# EAGLE library part MB91F662PMC-GE1 (library Fujitsu_By_element14_Batch_1)
32-bit Microcontrollers
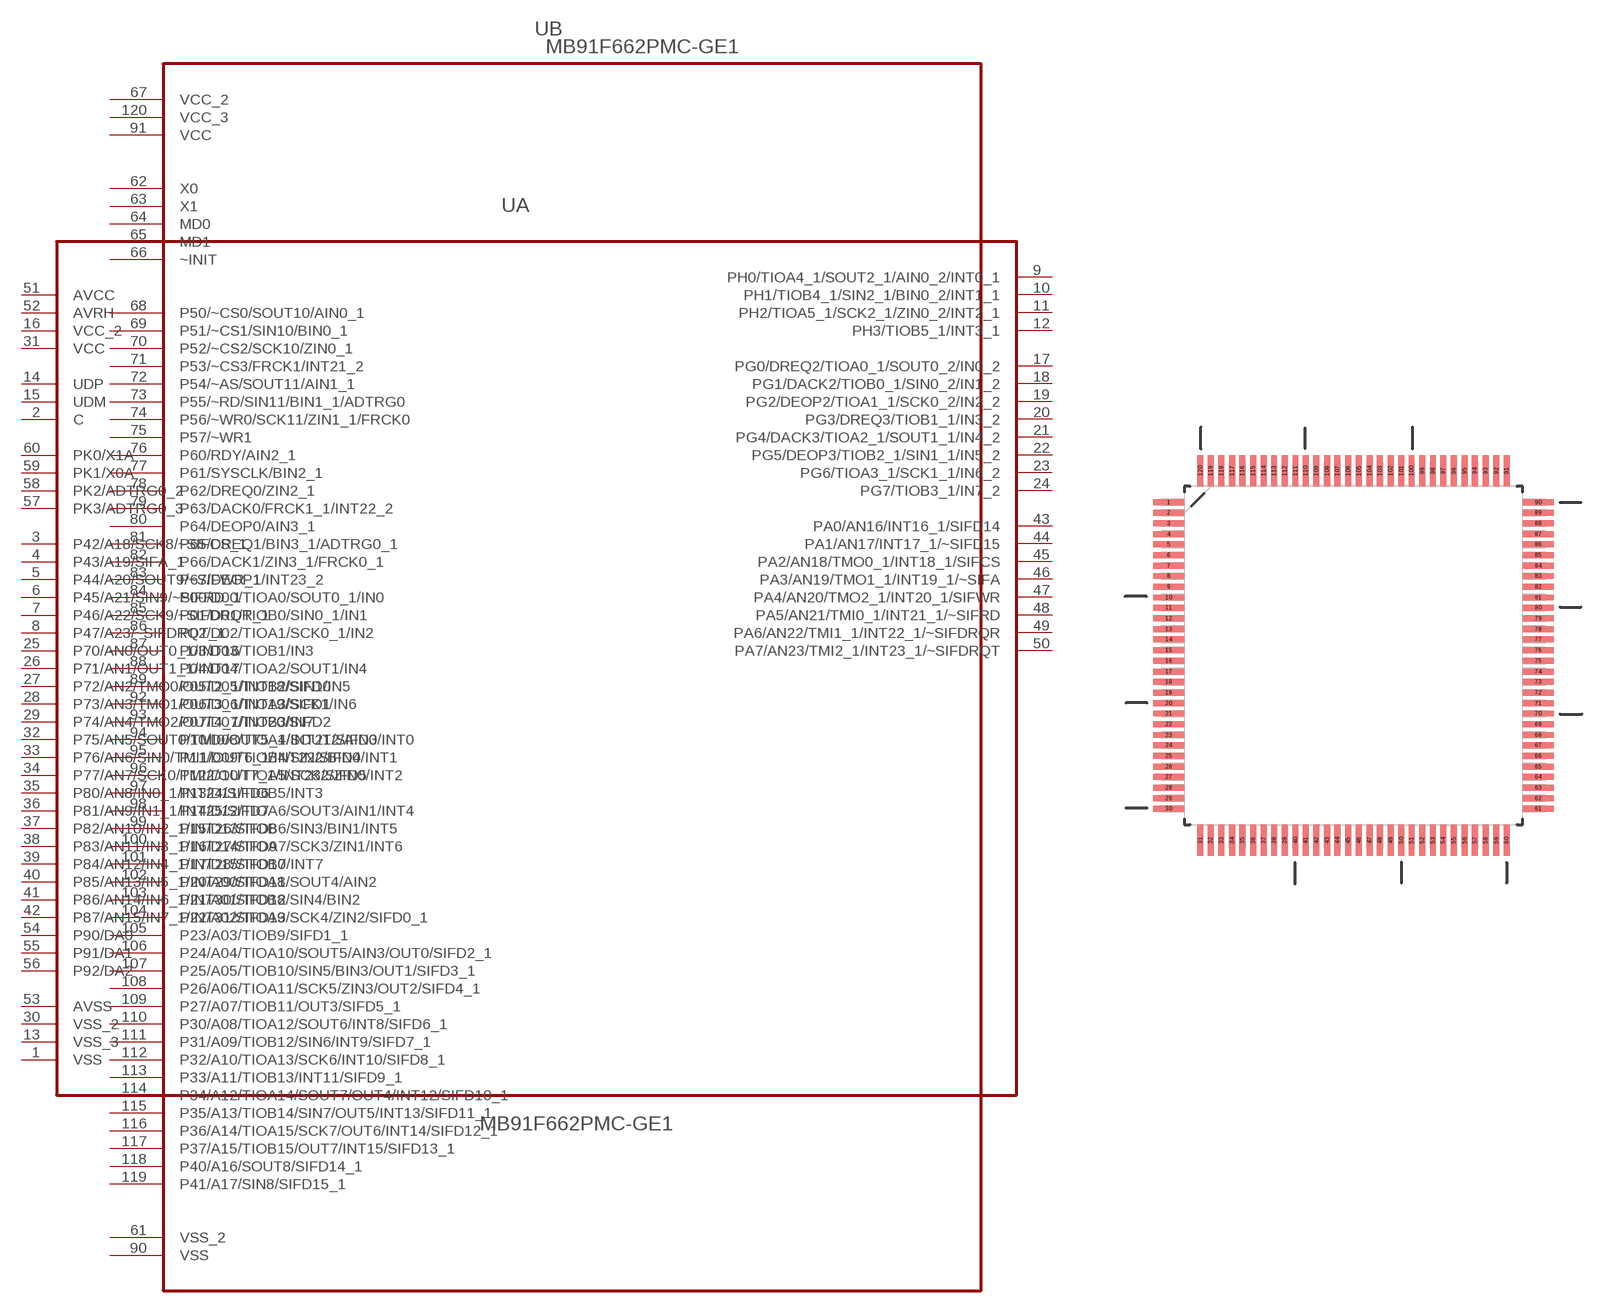
[diagram p2: symbol with the pads of QFP50P1800X1800X170-120N; footprint QFP50P1800X1800X170-120N]

Designator prefix U; gates A=MB91F662PMC-GE1_A B=MB91F662PMC-GE1_B

## MB91F662PMC-GE1 (MPN: MB91F662PMC-GE1; OC_FARNELL: 1831973; OC_NEWARK: 93R5174; PACKAGE: QFP-120; SUPPLIER: FUJITSU)  [QFP50P1800X1800X170-120N]
1  A:VSS  pas
2  A:C  in
3  A:P42/A18/SCK8/~SIFCS_1
4  A:P43/A19/SIFA_1
5  A:P44/A20/SOUT9/~SIFWR_1
6  A:P45/A21/SIN9/~SIFRD_1
7  A:P46/A22/SCK9/~SIFDRQR_1
8  A:P47/A23/~SIFDRQT_1
9  A:PH0/TIOA4_1/SOUT2_1/AIN0_2/INT0_1
10  A:PH1/TIOB4_1/SIN2_1/BIN0_2/INT1_1
11  A:PH2/TIOA5_1/SCK2_1/ZIN0_2/INT2_1
12  A:PH3/TIOB5_1/INT3_1
13  A:VSS_3  pas
14  A:UDP  in
15  A:UDM  in
16  A:VCC_2  pwr
17  A:PG0/DREQ2/TIOA0_1/SOUT0_2/IN0_2
18  A:PG1/DACK2/TIOB0_1/SIN0_2/IN1_2
19  A:PG2/DEOP2/TIOA1_1/SCK0_2/IN2_2
20  A:PG3/DREQ3/TIOB1_1/IN3_2
21  A:PG4/DACK3/TIOA2_1/SOUT1_1/IN4_2
22  A:PG5/DEOP3/TIOB2_1/SIN1_1/IN5_2
23  A:PG6/TIOA3_1/SCK1_1/IN6_2
24  A:PG7/TIOB3_1/IN7_2
25  A:P70/AN0/OUT0_1/INT16
26  A:P71/AN1/OUT1_1/INT17
27  A:P72/AN2/TMO0/OUT2_1/INT18/SIFD0
28  A:P73/AN3/TMO1/OUT3_1/INT19/SIFD1
29  A:P74/AN4/TMO2/OUT4_1/INT20/SIFD2
30  A:VSS_2  pas
31  A:VCC  pwr
32  A:P75/AN5/SOUT0/TMI0/OUT5_1/INT21/SIFD3
33  A:P76/AN6/SIN0/TMI1/OUT6_1/INT22/SIFD4
34  A:P77/AN7/SCK0/TMI2/OUT7_1/INT23/SIFD5
35  A:P80/AN8/IN0_1/INT24/SIFD6
36  A:P81/AN9/IN1_1/INT25/SIFD7
37  A:P82/AN10/IN2_1/INT26/SIFD8
38  A:P83/AN11/IN3_1/INT27/SIFD9
39  A:P84/AN12/IN4_1/INT28/SIFD10
40  A:P85/AN13/IN5_1/INT29/SIFD11
41  A:P86/AN14/IN6_1/INT30/SIFD12
42  A:P87/AN15/IN7_1/INT31/SIFD13
43  A:PA0/AN16/INT16_1/SIFD14
44  A:PA1/AN17/INT17_1/~SIFD15
45  A:PA2/AN18/TMO0_1/INT18_1/SIFCS
46  A:PA3/AN19/TMO1_1/INT19_1/~SIFA
47  A:PA4/AN20/TMO2_1/INT20_1/SIFWR
48  A:PA5/AN21/TMI0_1/INT21_1/~SIFRD
49  A:PA6/AN22/TMI1_1/INT22_1/~SIFDRQR
50  A:PA7/AN23/TMI2_1/INT23_1/~SIFDRQT
51  A:AVCC  pwr
52  A:AVRH  in
53  A:AVSS  pas
54  A:P90/DA0
55  A:P91/DA1
56  A:P92/DA2
57  A:PK3/ADTRG0_3
58  A:PK2/ADTRG0_2
59  A:PK1/X0A
60  A:PK0/X1A
61  B:VSS_2  pas
62  B:X0  in
63  B:X1
64  B:MD0  in
65  B:MD1  in
66  B:~INIT  in
67  B:VCC_2  pwr
68  B:P50/~CS0/SOUT10/AIN0_1
69  B:P51/~CS1/SIN10/BIN0_1
70  B:P52/~CS2/SCK10/ZIN0_1
71  B:P53/~CS3/FRCK1/INT21_2
72  B:P54/~AS/SOUT11/AIN1_1
73  B:P55/~RD/SIN11/BIN1_1/ADTRG0
74  B:P56/~WR0/SCK11/ZIN1_1/FRCK0
75  B:P57/~WR1
76  B:P60/RDY/AIN2_1
77  B:P61/SYSCLK/BIN2_1
78  B:P62/DREQ0/ZIN2_1
79  B:P63/DACK0/FRCK1_1/INT22_2
80  B:P64/DEOP0/AIN3_1
81  B:P65/DREQ1/BIN3_1/ADTRG0_1
82  B:P66/DACK1/ZIN3_1/FRCK0_1
83  B:P67/DEOP1/INT23_2
84  B:P00/D00/TIOA0/SOUT0_1/IN0
85  B:P01/D01/TIOB0/SIN0_1/IN1
86  B:P02/D02/TIOA1/SCK0_1/IN2
87  B:P03/D03/TIOB1/IN3
88  B:P04/D04/TIOA2/SOUT1/IN4
89  B:P05/D05/TIOB2/SIN1/IN5
90  B:VSS  pas
91  B:VCC  pwr
92  B:P06/D06/TIOA3/SCK1/IN6
93  B:P07/D07/TIOB3/IN7
94  B:P10/D08/TIOA4/SOUT2/AIN0/INT0
95  B:P11/D09/TIOB4/SIN2/BIN0/INT1
96  B:P12/D10/TIOA5/SCK2/ZIN0/INT2
97  B:P13/D11/TIOB5/INT3
98  B:P14/D12/TIOA6/SOUT3/AIN1/INT4
99  B:P15/D13/TIOB6/SIN3/BIN1/INT5
100  B:P16/D14/TIOA7/SCK3/ZIN1/INT6
101  B:P17/D15/TIOB7/INT7
102  B:P20/A00/TIOA8/SOUT4/AIN2
103  B:P21/A01/TIOB8/SIN4/BIN2
104  B:P22/A02/TIOA9/SCK4/ZIN2/SIFD0_1
105  B:P23/A03/TIOB9/SIFD1_1
106  B:P24/A04/TIOA10/SOUT5/AIN3/OUT0/SIFD2_1
107  B:P25/A05/TIOB10/SIN5/BIN3/OUT1/SIFD3_1
108  B:P26/A06/TIOA11/SCK5/ZIN3/OUT2/SIFD4_1
109  B:P27/A07/TIOB11/OUT3/SIFD5_1
110  B:P30/A08/TIOA12/SOUT6/INT8/SIFD6_1
111  B:P31/A09/TIOB12/SIN6/INT9/SIFD7_1
112  B:P32/A10/TIOA13/SCK6/INT10/SIFD8_1
113  B:P33/A11/TIOB13/INT11/SIFD9_1
114  B:P34/A12/TIOA14/SOUT7/OUT4/INT12/SIFD10_1
115  B:P35/A13/TIOB14/SIN7/OUT5/INT13/SIFD11_1
116  B:P36/A14/TIOA15/SCK7/OUT6/INT14/SIFD12_1
117  B:P37/A15/TIOB15/OUT7/INT15/SIFD13_1
118  B:P40/A16/SOUT8/SIFD14_1
119  B:P41/A17/SIN8/SIFD15_1
120  B:VCC_3  pwr

## Footprint QFP50P1800X1800X170-120N (pad centres in mm)
smd 1.473 x 0.279: 1 -8.738,7.239; 2 -8.738,6.756; 3 -8.738,6.248; 4 -8.738,5.74; 5 -8.738,5.258; 6 -8.738,4.75; 7 -8.738,4.242; 8 -8.738,3.759; 9 -8.738,3.251; 10 -8.738,2.743; 11 -8.738,2.261; 12 -8.738,1.753; 13 -8.738,1.245; 14 -8.738,0.762; 15 -8.738,0.254; 16 -8.738,-0.254; 17 -8.738,-0.762; 18 -8.738,-1.245; 19 -8.738,-1.753; 20 -8.738,-2.261; 21 -8.738,-2.743; 22 -8.738,-3.251; 23 -8.738,-3.759; 24 -8.738,-4.242; 25 -8.738,-4.75; 26 -8.738,-5.258; 27 -8.738,-5.74; 28 -8.738,-6.248; 29 -8.738,-6.756; 30 -8.738,-7.239; 61 8.738,-7.239; 62 8.738,-6.756; 63 8.738,-6.248; 64 8.738,-5.74; 65 8.738,-5.258; 66 8.738,-4.75; 67 8.738,-4.242; 68 8.738,-3.759; 69 8.738,-3.251; 70 8.738,-2.743; 71 8.738,-2.261; 72 8.738,-1.753; 73 8.738,-1.245; 74 8.738,-0.762; 75 8.738,-0.254; 76 8.738,0.254; 77 8.738,0.762; 78 8.738,1.245; 79 8.738,1.753; 80 8.738,2.261; 81 8.738,2.743; 82 8.738,3.251; 83 8.738,3.759; 84 8.738,4.242; 85 8.738,4.75; 86 8.738,5.258; 87 8.738,5.74; 88 8.738,6.248; 89 8.738,6.756; 90 8.738,7.239
smd 0.279 x 1.473: 31 -7.239,-8.738; 32 -6.756,-8.738; 33 -6.248,-8.738; 34 -5.74,-8.738; 35 -5.258,-8.738; 36 -4.75,-8.738; 37 -4.242,-8.738; 38 -3.759,-8.738; 39 -3.251,-8.738; 40 -2.743,-8.738; 41 -2.261,-8.738; 42 -1.753,-8.738; 43 -1.245,-8.738; 44 -0.762,-8.738; 45 -0.254,-8.738; 46 0.254,-8.738; 47 0.762,-8.738; 48 1.245,-8.738; 49 1.753,-8.738; 50 2.261,-8.738; 51 2.743,-8.738; 52 3.251,-8.738; 53 3.759,-8.738; 54 4.242,-8.738; 55 4.75,-8.738; 56 5.258,-8.738; 57 5.74,-8.738; 58 6.248,-8.738; 59 6.756,-8.738; 60 7.239,-8.738; 91 7.239,8.738; 92 6.756,8.738; 93 6.248,8.738; 94 5.74,8.738; 95 5.258,8.738; 96 4.75,8.738; 97 4.242,8.738; 98 3.759,8.738; 99 3.251,8.738; 100 2.743,8.738; 101 2.261,8.738; 102 1.753,8.738; 103 1.245,8.738; 104 0.762,8.738; 105 0.254,8.738; 106 -0.254,8.738; 107 -0.762,8.738; 108 -1.245,8.738; 109 -1.753,8.738; 110 -2.261,8.738; 111 -2.743,8.738; 112 -3.251,8.738; 113 -3.759,8.738; 114 -4.242,8.738; 115 -4.75,8.738; 116 -5.258,8.738; 117 -5.74,8.738; 118 -6.248,8.738; 119 -6.756,8.738; 120 -7.239,8.738